# EAGLE library part ATMEGA* (library atmel-2005)
MICROCONTROLLER 64/128/256 Kbytes FLASH 4 Kbytes EEPROM 8 Kbytes SRAM 86 General Purpose I/O pins 12-channels16-bit PWM 4 x Serial USARTs 16-channels 10-bit A/D
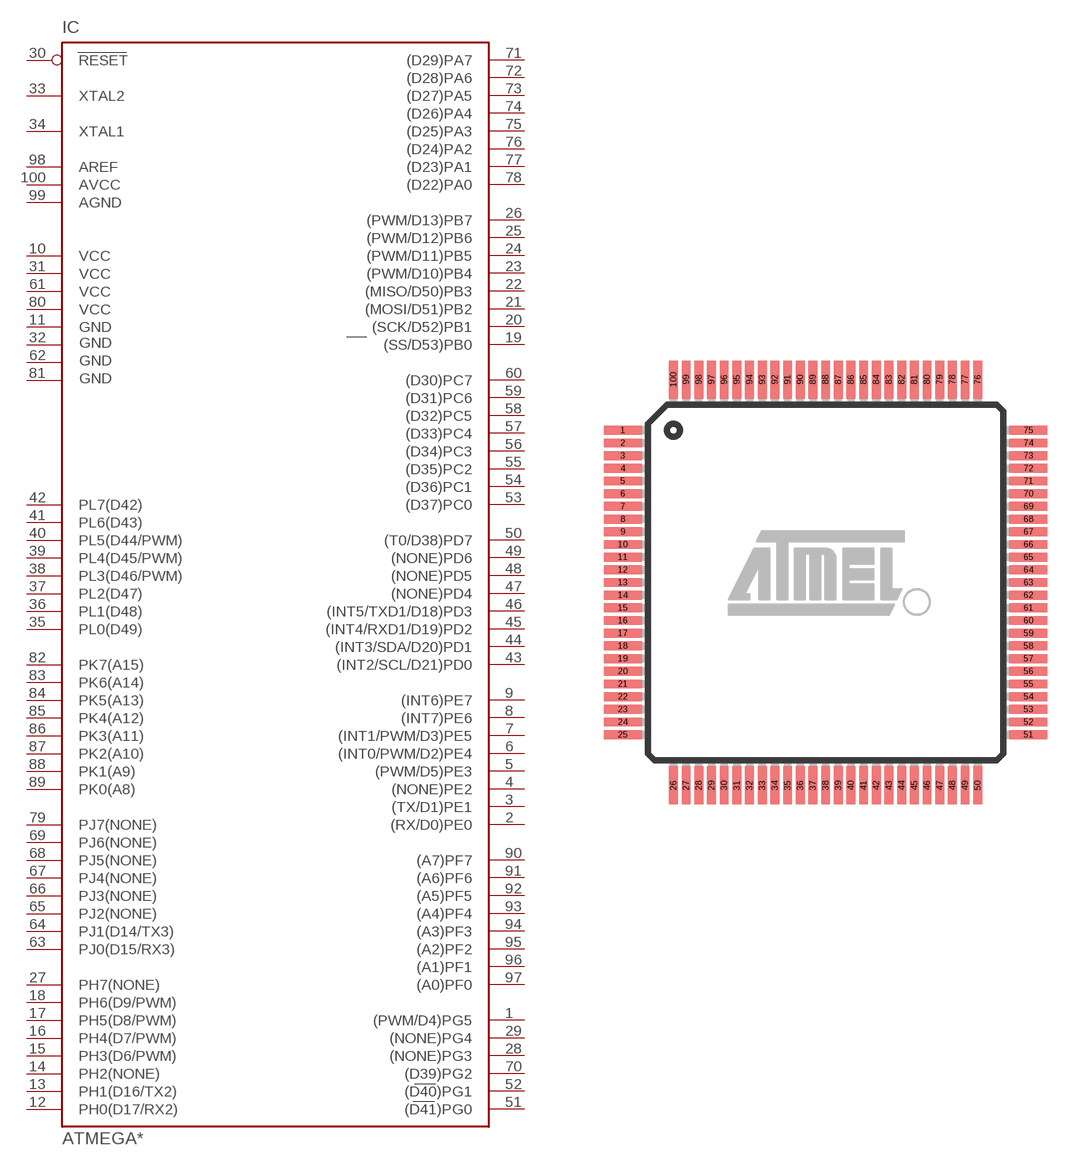
[diagram p0: symbol with the pads of TQFP100; footprint TQFP100]

Designator prefix IC

## ATMEGA1280-16AI, ATMEGA1280V-8AI, ATMEGA2560-16AI, ATMEGA2560V-8AI, ATMEGA640-16AI, ATMEGA640V-8AI  [TQFP100]
1  (PWM/D4)PG5
2  (RX/D0)PE0
3  (TX/D1)PE1
4  (NONE)PE2
5  (PWM/D5)PE3
6  (INT0/PWM/D2)PE4
7  (INT1/PWM/D3)PE5
8  (INT7)PE6
9  (INT6)PE7
10  VCC  pwr
11  GND  pwr
12  PH0(D17/RX2)
13  PH1(D16/TX2)
14  PH2(NONE)
15  PH3(D6/PWM)
16  PH4(D7/PWM)
17  PH5(D8/PWM)
18  PH6(D9/PWM)
19  (SS/D53)PB0
20  (SCK/D52)PB1
21  (MOSI/D51)PB2
22  (MISO/D50)PB3
23  (PWM/D10)PB4
24  (PWM/D11)PB5
25  (PWM/D12)PB6
26  (PWM/D13)PB7
27  PH7(NONE)
28  (NONE)PG3
29  (NONE)PG4
30  RESET  in
31  VCC1  pwr
32  GND1  pwr
33  XTAL2  out
34  XTAL1  in
35  PL0(D49)
36  PL1(D48)
37  PL2(D47)
38  PL3(D46/PWM)
39  PL4(D45/PWM)
40  PL5(D44/PWM)
41  PL6(D43)
42  PL7(D42)
43  (INT2/SCL/D21)PD0
44  (INT3/SDA/D20)PD1
45  (INT4/RXD1/D19)PD2
46  (INT5/TXD1/D18)PD3
47  (NONE)PD4
48  (NONE)PD5
49  (NONE)PD6
50  (T0/D38)PD7
51  (D41)PG0
52  (D40)PG1
53  (D37)PC0
54  (D36)PC1
55  (D35)PC2
56  (D34)PC3
57  (D33)PC4
58  (D32)PC5
59  (D31)PC6
60  (D30)PC7
61  VCC2  pwr
62  GND2  pwr
63  PJ0(D15/RX3)
64  PJ1(D14/TX3)
65  PJ2(NONE)
66  PJ3(NONE)
67  PJ4(NONE)
68  PJ5(NONE)
69  PJ6(NONE)
70  (D39)PG2
71  (D29)PA7
72  (D28)PA6
73  (D27)PA5
74  (D26)PA4
75  (D25)PA3
76  (D24)PA2
77  (D23)PA1
78  (D22)PA0
79  PJ7(NONE)
80  VCC3  pwr
81  GND3  pwr
82  PK7(A15)
83  PK6(A14)
84  PK5(A13)
85  PK4(A12)
86  PK3(A11)
87  PK2(A10)
88  PK1(A9)
89  PK0(A8)
90  (A7)PF7
91  (A6)PF6
92  (A5)PF5
93  (A4)PF4
94  (A3)PF3
95  (A2)PF2
96  (A1)PF1
97  (A0)PF0
98  AREF
99  AGND  pwr
100  AVCC  pwr

## ATMEGA1280-16AU, ATMEGA1280V-8AU, ATMEGA2560-16AU, ATMEGA2560V-8AU, ATMEGA640-16AU, ATMEGA640V-8AU  [TQFP100]
Pads as for TQFP100

## Footprint TQFP100 (pad centres in mm)
100-lead Thin Quad Flat Pack Package Outline
smd 1.5 x 0.35: 1 -8,6; 2 -8,5.5; 3 -8,5; 4 -8,4.5; 5 -8,4; 6 -8,3.5; 7 -8,3; 8 -8,2.5; 9 -8,2; 10 -8,1.5; 11 -8,1; 12 -8,0.5; 13 -8,0; 14 -8,-0.5; 15 -8,-1; 16 -8,-1.5; 17 -8,-2; 18 -8,-2.5; 19 -8,-3; 20 -8,-3.5; 21 -8,-4; 22 -8,-4.5; 23 -8,-5; 24 -8,-5.5; 25 -8,-6; 51 8,-6; 52 8,-5.5; 53 8,-5; 54 8,-4.5; 55 8,-4; 56 8,-3.5; 57 8,-3; 58 8,-2.5; 59 8,-2; 60 8,-1.5; 61 8,-1; 62 8,-0.5; 63 8,0; 64 8,0.5; 65 8,1; 66 8,1.5; 67 8,2; 68 8,2.5; 69 8,3; 70 8,3.5; 71 8,4; 72 8,4.5; 73 8,5; 74 8,5.5; 75 8,6
smd 0.35 x 1.5: 26 -6,-8; 27 -5.5,-8; 28 -5,-8; 29 -4.5,-8; 30 -4,-8; 31 -3.5,-8; 32 -3,-8; 33 -2.5,-8; 34 -2,-8; 35 -1.5,-8; 36 -1,-8; 37 -0.5,-8; 38 0,-8; 39 0.5,-8; 40 1,-8; 41 1.5,-8; 42 2,-8; 43 2.5,-8; 44 3,-8; 45 3.5,-8; 46 4,-8; 47 4.5,-8; 48 5,-8; 49 5.5,-8; 50 6,-8; 76 6,8; 77 5.5,8; 78 5,8; 79 4.5,8; 80 4,8; 81 3.5,8; 82 3,8; 83 2.5,8; 84 2,8; 85 1.5,8; 86 1,8; 87 0.5,8; 88 0,8; 89 -0.5,8; 90 -1,8; 91 -1.5,8; 92 -2,8; 93 -2.5,8; 94 -3,8; 95 -3.5,8; 96 -4,8; 97 -4.5,8; 98 -5,8; 99 -5.5,8; 100 -6,8